# Altium integrated library Linear Technology Operational Amplifiers (LT2000-LT6000).IntLib: 1710 symbols (part 20 of 75)
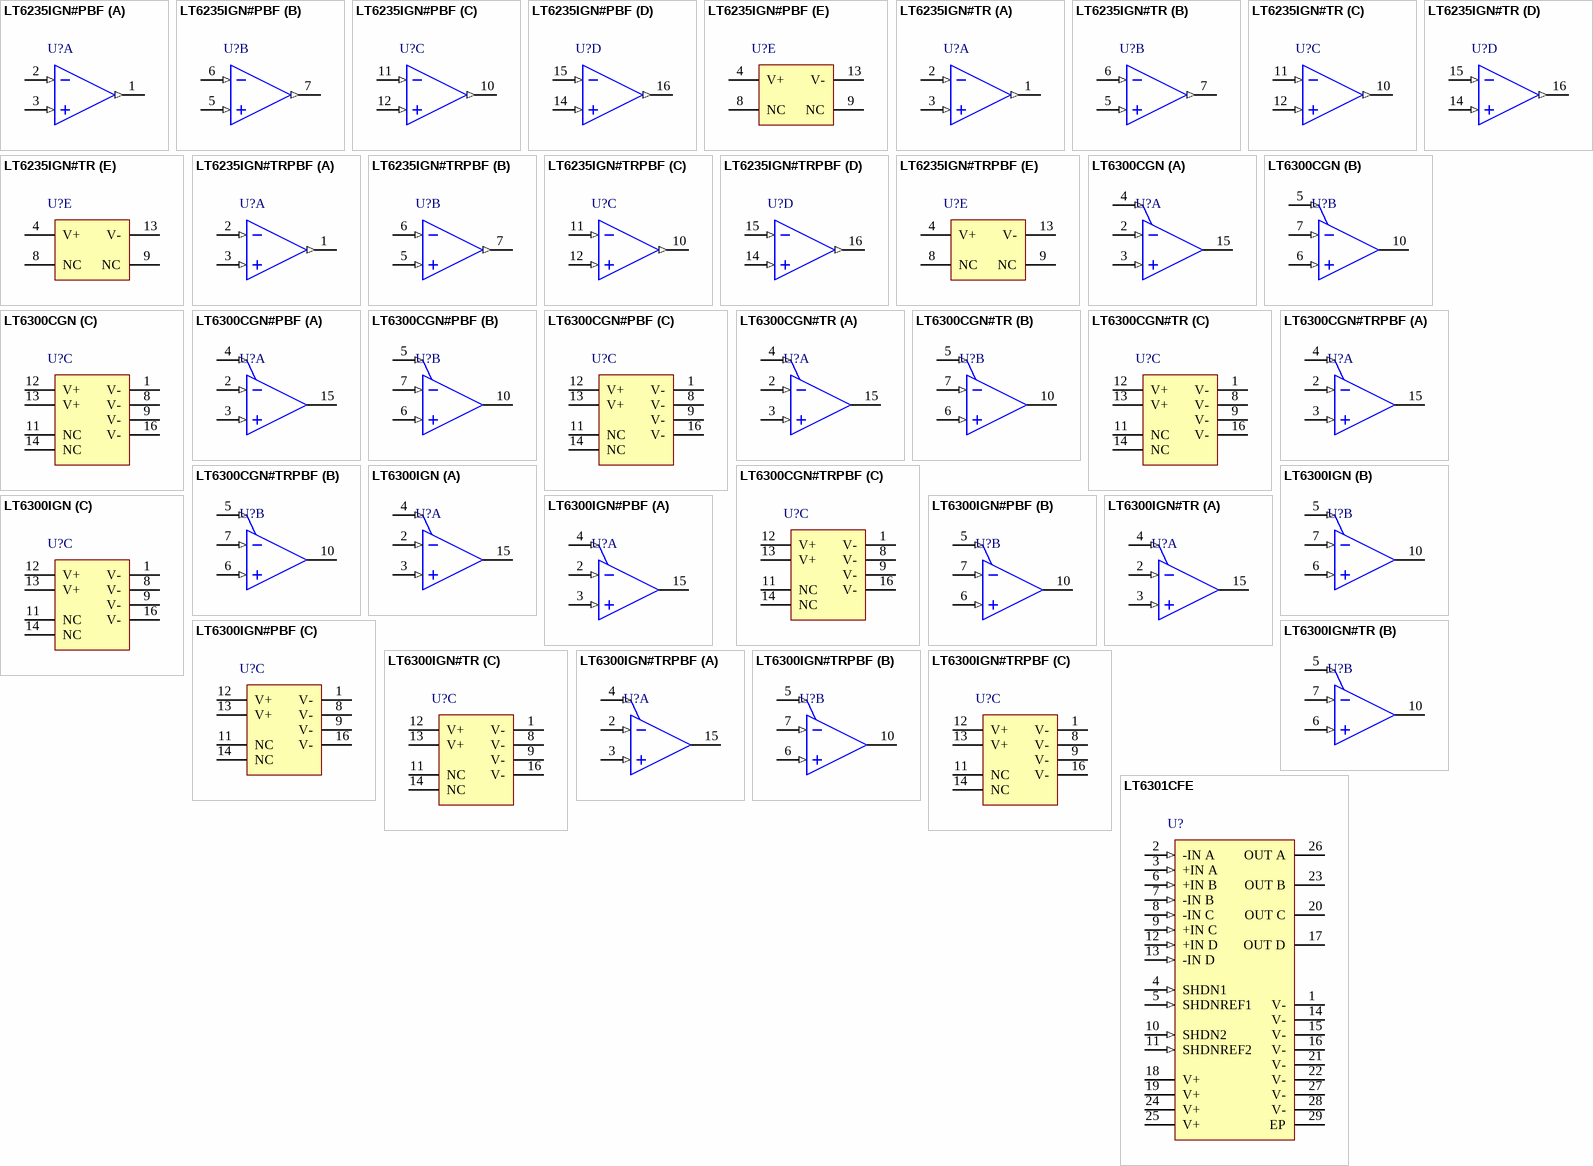
[diagram p99: symbols LT6235IGN#PBF to LT6301CFE]

## LT6300IGN
designator U?
Dual Channel, xDSL Driver, 500 mA, 200 MHz Typical GBW, 600 V/us Typical SR, 8 to 27 V, 16-Pin SOP (GN-16), Industrial; Linear Technology Part Number: LT6300; Manufacturer: Linear Technology; PartNumber: LT6300IGN; Channels (#): 2; GBW (MHz) Typical: 200; Is (mA) Typical: 10; SR (V/us) Typical: 600; Vos (mV) Guaranteed: 5; Vos (mV) Typical: 1; Vs Max (V): 27; Vs Min (V): 8; PackageVersion: Rev B; PackageReference: LT-GN-16; PackageDescription: 16-Lead Plastic SSOP, Body 4.9 x 3.9 mm, Pitch 0.635 mm; Supplier 1: Digi-Key; Supplier Part Number 1: LT6300IGN-ND; Type: VFB; Mounting Technology: Surface Mount; ComponentLink1Description: Manufacturer URL; ComponentLink1URL: http://www.linear.com/; ComponentLink2Description: Datasheet; ComponentLink2URL: http://cds.linear.com/docs/en/datasheet/6300f.pdf; ComponentLink3Description: Package Specification; ComponentLink3URL: http://cds.linear.com/docs/en/packaging/05081641_B_GN16.pdf
footprint LT-GN-16_N (SOP, 16-Leads, Body 4.9x3.9mm, Pitch 0.635mm, IPC Medium Density)
footprint LT-GN-16_L (SOP, 16-Leads, Body 4.9x3.9mm, Pitch 0.635mm, IPC High Density)
footprint LT-GN-16_M (SOP, 16-Leads, Body 4.9x3.9mm, Pitch 0.635mm, IPC Low Density)
part A pins: 2 -IN (in), 3 +IN (in), 4 SHDN (in), 15 OUT (hiz)
part B pins: 5 SHDNREF (in), 6 +IN (in), 7 -IN (in), 10 OUT (hiz)
part C pins: 1 V- (power), 8 V- (power), 9 V- (power), 11 NC, 12 V+ (power), 13 V+ (power), 14 NC, 16 V- (power)

## LT6300IGN#PBF
designator U?
Dual Channel, xDSL Driver, 500 mA, 200 MHz Typical GBW, 600 V/us Typical SR, 8 to 27 V, 16-Pin SOP (GN-16), Industrial, Pb-Free; Linear Technology Part Number: LT6300; Manufacturer: Linear Technology; PartNumber: LT6300IGN#PBF; Channels (#): 2; GBW (MHz) Typical: 200; Is (mA) Typical: 10; SR (V/us) Typical: 600; Vos (mV) Guaranteed: 5; Vos (mV) Typical: 1; Vs Max (V): 27; Vs Min (V): 8; PackageVersion: Rev B; PackageReference: LT-GN-16; PackageDescription: 16-Lead Plastic SSOP, Body 4.9 x 3.9 mm, Pitch 0.635 mm; Supplier 1: Digi-Key; Supplier Part Number 1: LT6300IGN#PBF-ND; RoHS: Pb-Free; Type: VFB; Mounting Technology: Surface Mount; ComponentLink1Description: Manufacturer URL; ComponentLink1URL: http://www.linear.com/; ComponentLink2Description: Datasheet; ComponentLink2URL: http://cds.linear.com/docs/en/datasheet/6300f.pdf; ComponentLink3Description: Package Specification; ComponentLink3URL: http://cds.linear.com/docs/en/packaging/05081641_B_GN16.pdf
footprint LT-GN-16_N (SOP, 16-Leads, Body 4.9x3.9mm, Pitch 0.635mm, IPC Medium Density)
footprint LT-GN-16_L (SOP, 16-Leads, Body 4.9x3.9mm, Pitch 0.635mm, IPC High Density)
footprint LT-GN-16_M (SOP, 16-Leads, Body 4.9x3.9mm, Pitch 0.635mm, IPC Low Density)
part A pins: 2 -IN (in), 3 +IN (in), 4 SHDN (in), 15 OUT (hiz)
part B pins: 5 SHDNREF (in), 6 +IN (in), 7 -IN (in), 10 OUT (hiz)
part C pins: 1 V- (power), 8 V- (power), 9 V- (power), 11 NC, 12 V+ (power), 13 V+ (power), 14 NC, 16 V- (power)

## LT6300IGN#TR
designator U?
Dual Channel, xDSL Driver, 500 mA, 200 MHz Typical GBW, 600 V/us Typical SR, 8 to 27 V, 16-Pin SOP (GN-16), Industrial, Reel; Linear Technology Part Number: LT6300; Manufacturer: Linear Technology; PartNumber: LT6300IGN#TR; Channels (#): 2; GBW (MHz) Typical: 200; Is (mA) Typical: 10; SR (V/us) Typical: 600; Vos (mV) Guaranteed: 5; Vos (mV) Typical: 1; Vs Max (V): 27; Vs Min (V): 8; PackageVersion: Rev B; PackageReference: LT-GN-16; PackageDescription: 16-Lead Plastic SSOP, Body 4.9 x 3.9 mm, Pitch 0.635 mm; Supplier 1: Digi-Key; Supplier Part Number 1: LT6300IGNTR-ND; Packing: Reel; Type: VFB; Mounting Technology: Surface Mount; ComponentLink1Description: Manufacturer URL; ComponentLink1URL: http://www.linear.com/; ComponentLink2Description: Datasheet; ComponentLink2URL: http://cds.linear.com/docs/en/datasheet/6300f.pdf; ComponentLink3Description: Package Specification; ComponentLink3URL: http://cds.linear.com/docs/en/packaging/05081641_B_GN16.pdf
footprint LT-GN-16_N (SOP, 16-Leads, Body 4.9x3.9mm, Pitch 0.635mm, IPC Medium Density)
footprint LT-GN-16_L (SOP, 16-Leads, Body 4.9x3.9mm, Pitch 0.635mm, IPC High Density)
footprint LT-GN-16_M (SOP, 16-Leads, Body 4.9x3.9mm, Pitch 0.635mm, IPC Low Density)
part A pins: 2 -IN (in), 3 +IN (in), 4 SHDN (in), 15 OUT (hiz)
part B pins: 5 SHDNREF (in), 6 +IN (in), 7 -IN (in), 10 OUT (hiz)
part C pins: 1 V- (power), 8 V- (power), 9 V- (power), 11 NC, 12 V+ (power), 13 V+ (power), 14 NC, 16 V- (power)

## LT6300IGN#TRPBF
designator U?
Dual Channel, xDSL Driver, 500 mA, 200 MHz Typical GBW, 600 V/us Typical SR, 8 to 27 V, 16-Pin SOP (GN-16), Industrial, Pb-Free, Reel; Linear Technology Part Number: LT6300; Manufacturer: Linear Technology; PartNumber: LT6300IGN#TRPBF; Channels (#): 2; GBW (MHz) Typical: 200; Is (mA) Typical: 10; SR (V/us) Typical: 600; Vos (mV) Guaranteed: 5; Vos (mV) Typical: 1; Vs Max (V): 27; Vs Min (V): 8; PackageVersion: Rev B; PackageReference: LT-GN-16; PackageDescription: 16-Lead Plastic SSOP, Body 4.9 x 3.9 mm, Pitch 0.635 mm; Supplier 1: Digi-Key; Supplier Part Number 1: LT6300IGN#TRPBF-ND; Packing: Reel; RoHS: Pb-Free; Type: VFB; Mounting Technology: Surface Mount; ComponentLink1Description: Manufacturer URL; ComponentLink1URL: http://www.linear.com/; ComponentLink2Description: Datasheet; ComponentLink2URL: http://cds.linear.com/docs/en/datasheet/6300f.pdf; ComponentLink3Description: Package Specification; ComponentLink3URL: http://cds.linear.com/docs/en/packaging/05081641_B_GN16.pdf
footprint LT-GN-16_N (SOP, 16-Leads, Body 4.9x3.9mm, Pitch 0.635mm, IPC Medium Density)
footprint LT-GN-16_L (SOP, 16-Leads, Body 4.9x3.9mm, Pitch 0.635mm, IPC High Density)
footprint LT-GN-16_M (SOP, 16-Leads, Body 4.9x3.9mm, Pitch 0.635mm, IPC Low Density)
part A pins: 2 -IN (in), 3 +IN (in), 4 SHDN (in), 15 OUT (hiz)
part B pins: 5 SHDNREF (in), 6 +IN (in), 7 -IN (in), 10 OUT (hiz)
part C pins: 1 V- (power), 8 V- (power), 9 V- (power), 11 NC, 12 V+ (power), 13 V+ (power), 14 NC, 16 V- (power)

## LT6301CFE
designator U?
Quad Channel, xDSL Driver, 500 mA, 200 MHz Typical GBW, 600 V/us Typical SR, 8 to 27 V, 28-Pin SOP (FE-28), Commercial; Linear Technology Part Number: LT6301; Manufacturer: Linear Technology; PartNumber: LT6301CFE; Channels (#): 4; GBW (MHz) Typical: 200; SR (V/us) Typical: 600; Vos (mV) Guaranteed: 5; Vos (mV) Typical: 1; Vs Max (V): 27; Vs Min (V): 8; PackageVersion: Rev I; PackageReference: LT-FE-28-EPV-EA; PackageDescription: 28-Lead Plastic TSSOP, Body 9.70 x 4.40 mm, Pitch 0.65 mm; Supplier 1: Digi-Key; Supplier Part Number 1: LT6301CFE-ND; Is (mA) Typical: 4; Type: VFB; Mounting Technology: Surface Mount; ComponentLink1Description: Manufacturer URL; ComponentLink1URL: http://www.linear.com/; ComponentLink2Description: Datasheet; ComponentLink2URL: http://cds.linear.com/docs/en/datasheet/6301fs.pdf; ComponentLink3Description: Package Specification; ComponentLink3URL: http://cds.linear.com/docs/en/packaging/05081663_I_FE28%28EA%29.pdf
footprint LT-FE-28-EPV-EA_N (SOP, 28-Leads, Body 9.70x4.40mm, Pitch 0.65mm, Thermal Pad 7.56X3.05mm, IPC Medium Density)
footprint LT-FE-28-EPV-EA_L (SOP, 28-Leads, Body 9.70x4.40mm, Pitch 0.65mm, Thermal Pad 7.56X3.05mm, IPC High Density)
footprint LT-FE-28-EPV-EA_M (SOP, 28-Leads, Body 9.70x4.40mm, Pitch 0.65mm, Thermal Pad 7.56X3.05mm, IPC Low Density)
pins: 1 V- (power), 2 -IN A (in), 3 +IN A (in), 4 SHDN1 (in), 5 SHDNREF1 (in), 6 +IN B (in), 7 -IN B (in), 8 -IN C (in), 9 +IN C (in), 10 SHDN2 (in), 11 SHDNREF2 (in), 12 +IN D (in), 13 -IN D (in), 14 V- (power), 15 V- (power), 16 V- (power), 17 OUT D (hiz), 18 V+ (power), 19 V+ (power), 20 OUT C (hiz), 21 V- (power), 22 V- (power), 23 OUT B (hiz), 24 V+ (power), 25 V+ (power), 26 OUT A (hiz), 27 V- (power), 28 V- (power), 29 EP (power)

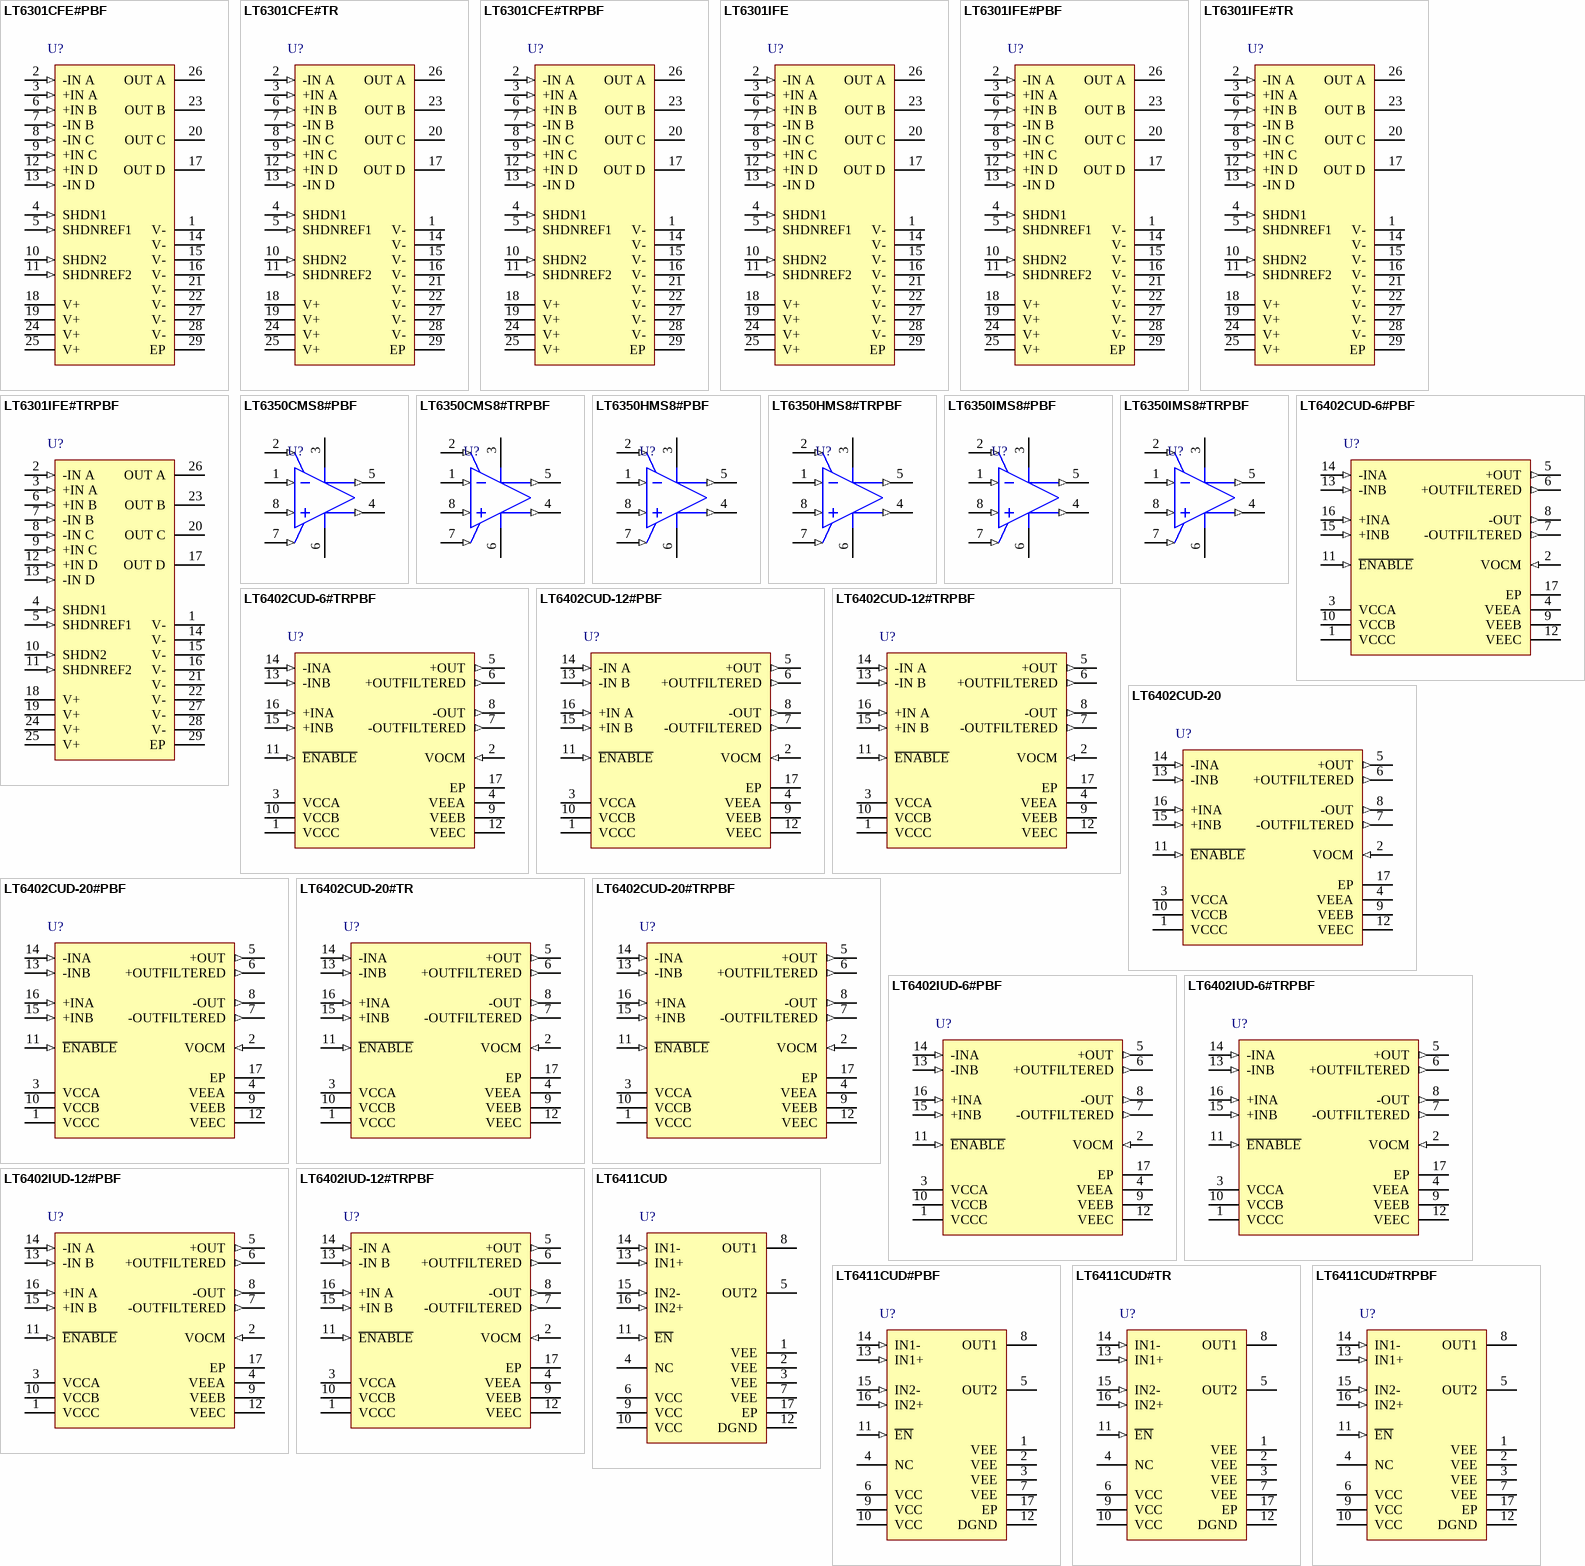
[diagram p31: symbols LT6301CFE#PBF to LT6411CUD#TRPBF]

## LT6301CFE#PBF
designator U?
Quad Channel, xDSL Driver, 500 mA, 200 MHz Typical GBW, 600 V/us Typical SR, 8 to 27 V, 28-Pin SOP (FE-28), Commercial, Pb-Free; Linear Technology Part Number: LT6301; Manufacturer: Linear Technology; PartNumber: LT6301CFE#PBF; Channels (#): 4; GBW (MHz) Typical: 200; SR (V/us) Typical: 600; Vos (mV) Guaranteed: 5; Vos (mV) Typical: 1; Vs Max (V): 27; Vs Min (V): 8; PackageVersion: Rev I; PackageReference: LT-FE-28-EPV-EA; PackageDescription: 28-Lead Plastic TSSOP, Body 9.70 x 4.40 mm, Pitch 0.65 mm; Supplier 1: Digi-Key; Supplier Part Number 1: LT6301CFE#PBF-ND; Is (mA) Typical: 4; RoHS: Pb-Free; Type: VFB; Mounting Technology: Surface Mount; ComponentLink1Description: Manufacturer URL; ComponentLink1URL: http://www.linear.com/; ComponentLink2Description: Datasheet; ComponentLink2URL: http://cds.linear.com/docs/en/datasheet/6301fs.pdf; ComponentLink3Description: Package Specification; ComponentLink3URL: http://cds.linear.com/docs/en/packaging/05081663_I_FE28%28EA%29.pdf
footprint LT-FE-28-EPV-EA_N (SOP, 28-Leads, Body 9.70x4.40mm, Pitch 0.65mm, Thermal Pad 7.56X3.05mm, IPC Medium Density)
footprint LT-FE-28-EPV-EA_L (SOP, 28-Leads, Body 9.70x4.40mm, Pitch 0.65mm, Thermal Pad 7.56X3.05mm, IPC High Density)
footprint LT-FE-28-EPV-EA_M (SOP, 28-Leads, Body 9.70x4.40mm, Pitch 0.65mm, Thermal Pad 7.56X3.05mm, IPC Low Density)
pins: 1 V- (power), 2 -IN A (in), 3 +IN A (in), 4 SHDN1 (in), 5 SHDNREF1 (in), 6 +IN B (in), 7 -IN B (in), 8 -IN C (in), 9 +IN C (in), 10 SHDN2 (in), 11 SHDNREF2 (in), 12 +IN D (in), 13 -IN D (in), 14 V- (power), 15 V- (power), 16 V- (power), 17 OUT D (hiz), 18 V+ (power), 19 V+ (power), 20 OUT C (hiz), 21 V- (power), 22 V- (power), 23 OUT B (hiz), 24 V+ (power), 25 V+ (power), 26 OUT A (hiz), 27 V- (power), 28 V- (power), 29 EP (power)

## LT6301CFE#TR
designator U?
Quad Channel, xDSL Driver, 500 mA, 200 MHz Typical GBW, 600 V/us Typical SR, 8 to 27 V, 28-Pin SOP (FE-28), Commercial, Reel; Linear Technology Part Number: LT6301; Manufacturer: Linear Technology; PartNumber: LT6301CFE#TR; Channels (#): 4; GBW (MHz) Typical: 200; SR (V/us) Typical: 600; Vos (mV) Guaranteed: 5; Vos (mV) Typical: 1; Vs Max (V): 27; Vs Min (V): 8; PackageVersion: Rev I; PackageReference: LT-FE-28-EPV-EA; PackageDescription: 28-Lead Plastic TSSOP, Body 9.70 x 4.40 mm, Pitch 0.65 mm; Supplier 1: Digi-Key; Supplier Part Number 1: LT6301CFETR-ND; Is (mA) Typical: 4; Packing: Reel; Type: VFB; Mounting Technology: Surface Mount; ComponentLink1Description: Manufacturer URL; ComponentLink1URL: http://www.linear.com/; ComponentLink2Description: Datasheet; ComponentLink2URL: http://cds.linear.com/docs/en/datasheet/6301fs.pdf; ComponentLink3Description: Package Specification; ComponentLink3URL: http://cds.linear.com/docs/en/packaging/05081663_I_FE28%28EA%29.pdf
footprint LT-FE-28-EPV-EA_N (SOP, 28-Leads, Body 9.70x4.40mm, Pitch 0.65mm, Thermal Pad 7.56X3.05mm, IPC Medium Density)
footprint LT-FE-28-EPV-EA_L (SOP, 28-Leads, Body 9.70x4.40mm, Pitch 0.65mm, Thermal Pad 7.56X3.05mm, IPC High Density)
footprint LT-FE-28-EPV-EA_M (SOP, 28-Leads, Body 9.70x4.40mm, Pitch 0.65mm, Thermal Pad 7.56X3.05mm, IPC Low Density)
pins: 1 V- (power), 2 -IN A (in), 3 +IN A (in), 4 SHDN1 (in), 5 SHDNREF1 (in), 6 +IN B (in), 7 -IN B (in), 8 -IN C (in), 9 +IN C (in), 10 SHDN2 (in), 11 SHDNREF2 (in), 12 +IN D (in), 13 -IN D (in), 14 V- (power), 15 V- (power), 16 V- (power), 17 OUT D (hiz), 18 V+ (power), 19 V+ (power), 20 OUT C (hiz), 21 V- (power), 22 V- (power), 23 OUT B (hiz), 24 V+ (power), 25 V+ (power), 26 OUT A (hiz), 27 V- (power), 28 V- (power), 29 EP (power)

## LT6301CFE#TRPBF
designator U?
Quad Channel, xDSL Driver, 500 mA, 200 MHz Typical GBW, 600 V/us Typical SR, 8 to 27 V, 28-Pin SOP (FE-28), Commercial, Pb-Free, Reel; Linear Technology Part Number: LT6301; Manufacturer: Linear Technology; PartNumber: LT6301CFE#TRPBF; Channels (#): 4; GBW (MHz) Typical: 200; SR (V/us) Typical: 600; Vos (mV) Guaranteed: 5; Vos (mV) Typical: 1; Vs Max (V): 27; Vs Min (V): 8; PackageVersion: Rev I; PackageReference: LT-FE-28-EPV-EA; PackageDescription: 28-Lead Plastic TSSOP, Body 9.70 x 4.40 mm, Pitch 0.65 mm; Supplier 1: Digi-Key; Supplier Part Number 1: LT6301CFE#TRPBF-ND; Is (mA) Typical: 4; Packing: Reel; RoHS: Pb-Free; Type: VFB; Mounting Technology: Surface Mount; ComponentLink1Description: Manufacturer URL; ComponentLink1URL: http://www.linear.com/; ComponentLink2Description: Datasheet; ComponentLink2URL: http://cds.linear.com/docs/en/datasheet/6301fs.pdf; ComponentLink3Description: Package Specification; ComponentLink3URL: http://cds.linear.com/docs/en/packaging/05081663_I_FE28%28EA%29.pdf
footprint LT-FE-28-EPV-EA_N (SOP, 28-Leads, Body 9.70x4.40mm, Pitch 0.65mm, Thermal Pad 7.56X3.05mm, IPC Medium Density)
footprint LT-FE-28-EPV-EA_L (SOP, 28-Leads, Body 9.70x4.40mm, Pitch 0.65mm, Thermal Pad 7.56X3.05mm, IPC High Density)
footprint LT-FE-28-EPV-EA_M (SOP, 28-Leads, Body 9.70x4.40mm, Pitch 0.65mm, Thermal Pad 7.56X3.05mm, IPC Low Density)
pins: 1 V- (power), 2 -IN A (in), 3 +IN A (in), 4 SHDN1 (in), 5 SHDNREF1 (in), 6 +IN B (in), 7 -IN B (in), 8 -IN C (in), 9 +IN C (in), 10 SHDN2 (in), 11 SHDNREF2 (in), 12 +IN D (in), 13 -IN D (in), 14 V- (power), 15 V- (power), 16 V- (power), 17 OUT D (hiz), 18 V+ (power), 19 V+ (power), 20 OUT C (hiz), 21 V- (power), 22 V- (power), 23 OUT B (hiz), 24 V+ (power), 25 V+ (power), 26 OUT A (hiz), 27 V- (power), 28 V- (power), 29 EP (power)

## LT6301IFE
designator U?
Quad Channel, xDSL Driver, 500 mA, 200 MHz Typical GBW, 600 V/us Typical SR, 8 to 27 V, 28-Pin SOP (FE-28), Industrial; Linear Technology Part Number: LT6301; Manufacturer: Linear Technology; PartNumber: LT6301IFE; Channels (#): 4; GBW (MHz) Typical: 200; SR (V/us) Typical: 600; Vos (mV) Guaranteed: 5; Vos (mV) Typical: 1; Vs Max (V): 27; Vs Min (V): 8; PackageVersion: Rev I; PackageReference: LT-FE-28-EPV-EA; PackageDescription: 28-Lead Plastic TSSOP, Body 9.70 x 4.40 mm, Pitch 0.65 mm; Supplier 1: Digi-Key; Supplier Part Number 1: LT6301IFE-ND; Is (mA) Typical: 4; Type: VFB; Mounting Technology: Surface Mount; ComponentLink1Description: Manufacturer URL; ComponentLink1URL: http://www.linear.com/; ComponentLink2Description: Datasheet; ComponentLink2URL: http://cds.linear.com/docs/en/datasheet/6301fs.pdf; ComponentLink3Description: Package Specification; ComponentLink3URL: http://cds.linear.com/docs/en/packaging/05081663_I_FE28%28EA%29.pdf
footprint LT-FE-28-EPV-EA_N (SOP, 28-Leads, Body 9.70x4.40mm, Pitch 0.65mm, Thermal Pad 7.56X3.05mm, IPC Medium Density)
footprint LT-FE-28-EPV-EA_L (SOP, 28-Leads, Body 9.70x4.40mm, Pitch 0.65mm, Thermal Pad 7.56X3.05mm, IPC High Density)
footprint LT-FE-28-EPV-EA_M (SOP, 28-Leads, Body 9.70x4.40mm, Pitch 0.65mm, Thermal Pad 7.56X3.05mm, IPC Low Density)
pins: 1 V- (power), 2 -IN A (in), 3 +IN A (in), 4 SHDN1 (in), 5 SHDNREF1 (in), 6 +IN B (in), 7 -IN B (in), 8 -IN C (in), 9 +IN C (in), 10 SHDN2 (in), 11 SHDNREF2 (in), 12 +IN D (in), 13 -IN D (in), 14 V- (power), 15 V- (power), 16 V- (power), 17 OUT D (hiz), 18 V+ (power), 19 V+ (power), 20 OUT C (hiz), 21 V- (power), 22 V- (power), 23 OUT B (hiz), 24 V+ (power), 25 V+ (power), 26 OUT A (hiz), 27 V- (power), 28 V- (power), 29 EP (power)

## LT6301IFE#PBF
designator U?
Quad Channel, xDSL Driver, 500 mA, 200 MHz Typical GBW, 600 V/us Typical SR, 8 to 27 V, 28-Pin SOP (FE-28), Industrial, Pb-Free; Linear Technology Part Number: LT6301; Manufacturer: Linear Technology; PartNumber: LT6301IFE#PBF; Channels (#): 4; GBW (MHz) Typical: 200; SR (V/us) Typical: 600; Vos (mV) Guaranteed: 5; Vos (mV) Typical: 1; Vs Max (V): 27; Vs Min (V): 8; PackageVersion: Rev I; PackageReference: LT-FE-28-EPV-EA; PackageDescription: 28-Lead Plastic TSSOP, Body 9.70 x 4.40 mm, Pitch 0.65 mm; Is (mA) Typical: 4; RoHS: Pb-Free; Type: VFB; Mounting Technology: Surface Mount; ComponentLink1Description: Manufacturer URL; ComponentLink1URL: http://www.linear.com/; ComponentLink2Description: Datasheet; ComponentLink2URL: http://cds.linear.com/docs/en/datasheet/6301fs.pdf; ComponentLink3Description: Package Specification; ComponentLink3URL: http://cds.linear.com/docs/en/packaging/05081663_I_FE28%28EA%29.pdf
footprint LT-FE-28-EPV-EA_N (SOP, 28-Leads, Body 9.70x4.40mm, Pitch 0.65mm, Thermal Pad 7.56X3.05mm, IPC Medium Density)
footprint LT-FE-28-EPV-EA_L (SOP, 28-Leads, Body 9.70x4.40mm, Pitch 0.65mm, Thermal Pad 7.56X3.05mm, IPC High Density)
footprint LT-FE-28-EPV-EA_M (SOP, 28-Leads, Body 9.70x4.40mm, Pitch 0.65mm, Thermal Pad 7.56X3.05mm, IPC Low Density)
pins: 1 V- (power), 2 -IN A (in), 3 +IN A (in), 4 SHDN1 (in), 5 SHDNREF1 (in), 6 +IN B (in), 7 -IN B (in), 8 -IN C (in), 9 +IN C (in), 10 SHDN2 (in), 11 SHDNREF2 (in), 12 +IN D (in), 13 -IN D (in), 14 V- (power), 15 V- (power), 16 V- (power), 17 OUT D (hiz), 18 V+ (power), 19 V+ (power), 20 OUT C (hiz), 21 V- (power), 22 V- (power), 23 OUT B (hiz), 24 V+ (power), 25 V+ (power), 26 OUT A (hiz), 27 V- (power), 28 V- (power), 29 EP (power)

## LT6301IFE#TR
designator U?
Quad Channel, xDSL Driver, 500 mA, 200 MHz Typical GBW, 600 V/us Typical SR, 8 to 27 V, 28-Pin SOP (FE-28), Industrial, Reel; Linear Technology Part Number: LT6301; Manufacturer: Linear Technology; PartNumber: LT6301IFE#TR; Channels (#): 4; GBW (MHz) Typical: 200; SR (V/us) Typical: 600; Vos (mV) Guaranteed: 5; Vos (mV) Typical: 1; Vs Max (V): 27; Vs Min (V): 8; PackageVersion: Rev I; PackageReference: LT-FE-28-EPV-EA; PackageDescription: 28-Lead Plastic TSSOP, Body 9.70 x 4.40 mm, Pitch 0.65 mm; Supplier 1: Digi-Key; Supplier Part Number 1: LT6301IFETR-ND; Is (mA) Typical: 4; Packing: Reel; Type: VFB; Mounting Technology: Surface Mount; ComponentLink1Description: Manufacturer URL; ComponentLink1URL: http://www.linear.com/; ComponentLink2Description: Datasheet; ComponentLink2URL: http://cds.linear.com/docs/en/datasheet/6301fs.pdf; ComponentLink3Description: Package Specification; ComponentLink3URL: http://cds.linear.com/docs/en/packaging/05081663_I_FE28%28EA%29.pdf
footprint LT-FE-28-EPV-EA_N (SOP, 28-Leads, Body 9.70x4.40mm, Pitch 0.65mm, Thermal Pad 7.56X3.05mm, IPC Medium Density)
footprint LT-FE-28-EPV-EA_L (SOP, 28-Leads, Body 9.70x4.40mm, Pitch 0.65mm, Thermal Pad 7.56X3.05mm, IPC High Density)
footprint LT-FE-28-EPV-EA_M (SOP, 28-Leads, Body 9.70x4.40mm, Pitch 0.65mm, Thermal Pad 7.56X3.05mm, IPC Low Density)
pins: 1 V- (power), 2 -IN A (in), 3 +IN A (in), 4 SHDN1 (in), 5 SHDNREF1 (in), 6 +IN B (in), 7 -IN B (in), 8 -IN C (in), 9 +IN C (in), 10 SHDN2 (in), 11 SHDNREF2 (in), 12 +IN D (in), 13 -IN D (in), 14 V- (power), 15 V- (power), 16 V- (power), 17 OUT D (hiz), 18 V+ (power), 19 V+ (power), 20 OUT C (hiz), 21 V- (power), 22 V- (power), 23 OUT B (hiz), 24 V+ (power), 25 V+ (power), 26 OUT A (hiz), 27 V- (power), 28 V- (power), 29 EP (power)

## LT6301IFE#TRPBF
designator U?
Quad Channel, xDSL Driver, 500 mA, 200 MHz Typical GBW, 600 V/us Typical SR, 8 to 27 V, 28-Pin SOP (FE-28), Industrial, Pb-Free, Reel; Linear Technology Part Number: LT6301; Manufacturer: Linear Technology; PartNumber: LT6301IFE#TRPBF; Channels (#): 4; GBW (MHz) Typical: 200; SR (V/us) Typical: 600; Vos (mV) Guaranteed: 5; Vos (mV) Typical: 1; Vs Max (V): 27; Vs Min (V): 8; PackageVersion: Rev I; PackageReference: LT-FE-28-EPV-EA; PackageDescription: 28-Lead Plastic TSSOP, Body 9.70 x 4.40 mm, Pitch 0.65 mm; Supplier 1: Digi-Key; Supplier Part Number 1: LT6301IFE#TRPBF-ND; Is (mA) Typical: 4; Packing: Reel; RoHS: Pb-Free; Type: VFB; Mounting Technology: Surface Mount; ComponentLink1Description: Manufacturer URL; ComponentLink1URL: http://www.linear.com/; ComponentLink2Description: Datasheet; ComponentLink2URL: http://cds.linear.com/docs/en/datasheet/6301fs.pdf; ComponentLink3Description: Package Specification; ComponentLink3URL: http://cds.linear.com/docs/en/packaging/05081663_I_FE28%28EA%29.pdf
footprint LT-FE-28-EPV-EA_N (SOP, 28-Leads, Body 9.70x4.40mm, Pitch 0.65mm, Thermal Pad 7.56X3.05mm, IPC Medium Density)
footprint LT-FE-28-EPV-EA_L (SOP, 28-Leads, Body 9.70x4.40mm, Pitch 0.65mm, Thermal Pad 7.56X3.05mm, IPC High Density)
footprint LT-FE-28-EPV-EA_M (SOP, 28-Leads, Body 9.70x4.40mm, Pitch 0.65mm, Thermal Pad 7.56X3.05mm, IPC Low Density)
pins: 1 V- (power), 2 -IN A (in), 3 +IN A (in), 4 SHDN1 (in), 5 SHDNREF1 (in), 6 +IN B (in), 7 -IN B (in), 8 -IN C (in), 9 +IN C (in), 10 SHDN2 (in), 11 SHDNREF2 (in), 12 +IN D (in), 13 -IN D (in), 14 V- (power), 15 V- (power), 16 V- (power), 17 OUT D (hiz), 18 V+ (power), 19 V+ (power), 20 OUT C (hiz), 21 V- (power), 22 V- (power), 23 OUT B (hiz), 24 V+ (power), 25 V+ (power), 26 OUT A (hiz), 27 V- (power), 28 V- (power), 29 EP (power)

## LT6350CMS8#PBF
designator U?
Single Channel, Low Noise Single-Ended to Differential Converter / ADC Driver, 33 MHz Typical GBW, 48 V/us Typical SR, 2.7 to 12 V, 8-Pin SOP (MS8-8), Commercial, Pb-Free; Linear Technology Part Number: LT6350; Manufacturer: Linear Technology; PartNumber: LT6350CMS8#PBF; Channels (#): 1; GBW (MHz) Typical: 33; Is (mA) Typical: 4.5; SR (V/us) Typical: 48; Vos (mV) Guaranteed: 0.45; Vos (mV) Typical: 0.1; Vs Max (V): 12; Vs Min (V): 2.7; DatasheetVersion: Rev. B; PackageVersion: Rev G; PackageReference: LT-MS8-8; PackageDescription: 8-Lead Plastic Small Outline, Body 3.9 x 4.9 mm, Pitch 1.27 mm; Supplier 1: Digi-Key; Supplier Part Number 1: LT6350CMS8#PBF-ND; Supplier 2: Farnell; Supplier Part Number 2: 2102657; Supplier 3: Newark; Supplier Part Number 3: 78R8472; RoHS: Pb-Free; Type: DIFF; Mounting Technology: Surface Mount; ComponentLink1Description: Manufacturer URL; ComponentLink1URL: http://www.linear.com/; ComponentLink2Description: Datasheet; ComponentLink2URL: http://cds.linear.com/docs/en/datasheet/6350f.pdf; ComponentLink3Description: Package Specification; ComponentLink3URL: http://cds.linear.com/docs/en/packaging/05081610_G_SO8.pdf
footprint LT-MS8-8_N (SOP, 8-Leads, Body 3x3mm, Pitch 0.65mm, IPC Medium Density)
footprint LT-MS8-8_L (SOP, 8-Leads, Body 3x3mm, Pitch 0.65mm, IPC High Density)
footprint LT-MS8-8_M (SOP, 8-Leads, Body 3x3mm, Pitch 0.65mm, IPC Low Density)
pins: 1 -IN1 (in) "Inverting Input. Normally used to take feedback from OUT1.", 2 +IN2 (in) "High Impedance Input. Normally used as a reference input.", 3 V+ (power) "Positive Power Supply.", 4 OUT1 (out) "Noninverting Output. In phase with +IN1.", 5 OUT2 (out) "Inverting Output.", 6 V- (power) "Negative Power Supply. Can be ground.", 7 ~{SHDN} (in) "Shutdown. If tied high or left fl oating, the part is enabled. If tied low, the part is disabled and draws less than 70 uA of supply current.", 8 +IN1 (in) "High Impedance Input. Normally used as the single-ended input."

## LT6350CMS8#TRPBF
designator U?
Single Channel, Low Noise Single-Ended to Differential Converter / ADC Driver, 33 MHz Typical GBW, 48 V/us Typical SR, 2.7 to 12 V, 8-Pin SOP (MS8-8), Commercial, Pb-Free, Reel; Linear Technology Part Number: LT6350; Manufacturer: Linear Technology; PartNumber: LT6350CMS8#TRPBF; Channels (#): 1; GBW (MHz) Typical: 33; Is (mA) Typical: 4.5; SR (V/us) Typical: 48; Vos (mV) Guaranteed: 0.45; Vos (mV) Typical: 0.1; Vs Max (V): 12; Vs Min (V): 2.7; DatasheetVersion: Rev. B; PackageVersion: Rev G; PackageReference: LT-MS8-8; PackageDescription: 8-Lead Plastic Small Outline, Body 3.9 x 4.9 mm, Pitch 1.27 mm; Supplier 1: Digi-Key; Supplier Part Number 1: LT6350CMS8#TRPBF-ND; Supplier 2: Newark; Supplier Part Number 2: 78R8473; Packing: Reel; RoHS: Pb-Free; Type: DIFF; Mounting Technology: Surface Mount; ComponentLink1Description: Manufacturer URL; ComponentLink1URL: http://www.linear.com/; ComponentLink2Description: Datasheet; ComponentLink2URL: http://cds.linear.com/docs/en/datasheet/6350f.pdf; ComponentLink3Description: Package Specification; ComponentLink3URL: http://cds.linear.com/docs/en/packaging/05081610_G_SO8.pdf
footprint LT-MS8-8_N (SOP, 8-Leads, Body 3x3mm, Pitch 0.65mm, IPC Medium Density)
footprint LT-MS8-8_L (SOP, 8-Leads, Body 3x3mm, Pitch 0.65mm, IPC High Density)
footprint LT-MS8-8_M (SOP, 8-Leads, Body 3x3mm, Pitch 0.65mm, IPC Low Density)
pins: 1 -IN1 (in) "Inverting Input. Normally used to take feedback from OUT1.", 2 +IN2 (in) "High Impedance Input. Normally used as a reference input.", 3 V+ (power) "Positive Power Supply.", 4 OUT1 (out) "Noninverting Output. In phase with +IN1.", 5 OUT2 (out) "Inverting Output.", 6 V- (power) "Negative Power Supply. Can be ground.", 7 ~{SHDN} (in) "Shutdown. If tied high or left fl oating, the part is enabled. If tied low, the part is disabled and draws less than 70 uA of supply current.", 8 +IN1 (in) "High Impedance Input. Normally used as the single-ended input."

## LT6350HMS8#PBF
designator U?
Single Channel, Low Noise Single-Ended to Differential Converter / ADC Driver, 33 MHz Typical GBW, 48 V/us Typical SR, 2.7 to 12 V, 8-Pin SOP (MS8-8), High Temperature / Automotive, Pb-Free; Linear Technology Part Number: LT6350; Manufacturer: Linear Technology; PartNumber: LT6350HMS8#PBF; Channels (#): 1; GBW (MHz) Typical: 33; Is (mA) Typical: 4.5; SR (V/us) Typical: 48; Vos (mV) Guaranteed: 0.45; Vos (mV) Typical: 0.1; Vs Max (V): 12; Vs Min (V): 2.7; DatasheetVersion: Rev. B; PackageVersion: Rev G; PackageReference: LT-MS8-8; PackageDescription: 8-Lead Plastic Small Outline, Body 3.9 x 4.9 mm, Pitch 1.27 mm; Supplier 1: Digi-Key; Supplier Part Number 1: LT6350HMS8#PBF-ND; Supplier 2: Newark; Supplier Part Number 2: 78R8476; RoHS: Pb-Free; Type: DIFF; Mounting Technology: Surface Mount; ComponentLink1Description: Manufacturer URL; ComponentLink1URL: http://www.linear.com/; ComponentLink2Description: Datasheet; ComponentLink2URL: http://cds.linear.com/docs/en/datasheet/6350f.pdf; ComponentLink3Description: Package Specification; ComponentLink3URL: http://cds.linear.com/docs/en/packaging/05081610_G_SO8.pdf
footprint LT-MS8-8_N (SOP, 8-Leads, Body 3x3mm, Pitch 0.65mm, IPC Medium Density)
footprint LT-MS8-8_L (SOP, 8-Leads, Body 3x3mm, Pitch 0.65mm, IPC High Density)
footprint LT-MS8-8_M (SOP, 8-Leads, Body 3x3mm, Pitch 0.65mm, IPC Low Density)
pins: 1 -IN1 (in) "Inverting Input. Normally used to take feedback from OUT1.", 2 +IN2 (in) "High Impedance Input. Normally used as a reference input.", 3 V+ (power) "Positive Power Supply.", 4 OUT1 (out) "Noninverting Output. In phase with +IN1.", 5 OUT2 (out) "Inverting Output.", 6 V- (power) "Negative Power Supply. Can be ground.", 7 ~{SHDN} (in) "Shutdown. If tied high or left fl oating, the part is enabled. If tied low, the part is disabled and draws less than 70 uA of supply current.", 8 +IN1 (in) "High Impedance Input. Normally used as the single-ended input."

## LT6350HMS8#TRPBF
designator U?
Single Channel, Low Noise Single-Ended to Differential Converter / ADC Driver, 33 MHz Typical GBW, 48 V/us Typical SR, 2.7 to 12 V, 8-Pin SOP (MS8-8), High Temperature / Automotive, Pb-Free, Reel; Linear Technology Part Number: LT6350; Manufacturer: Linear Technology; PartNumber: LT6350HMS8#TRPBF; Channels (#): 1; GBW (MHz) Typical: 33; Is (mA) Typical: 4.5; SR (V/us) Typical: 48; Vos (mV) Guaranteed: 0.45; Vos (mV) Typical: 0.1; Vs Max (V): 12; Vs Min (V): 2.7; DatasheetVersion: Rev. B; PackageVersion: Rev G; PackageReference: LT-MS8-8; PackageDescription: 8-Lead Plastic Small Outline, Body 3.9 x 4.9 mm, Pitch 1.27 mm; Supplier 1: Digi-Key; Supplier Part Number 1: LT6350HMS8#TRPBF-ND; Supplier 2: Newark; Supplier Part Number 2: 78R8477; Packing: Reel; RoHS: Pb-Free; Type: DIFF; Mounting Technology: Surface Mount; ComponentLink1Description: Manufacturer URL; ComponentLink1URL: http://www.linear.com/; ComponentLink2Description: Datasheet; ComponentLink2URL: http://cds.linear.com/docs/en/datasheet/6350f.pdf; ComponentLink3Description: Package Specification; ComponentLink3URL: http://cds.linear.com/docs/en/packaging/05081610_G_SO8.pdf
footprint LT-MS8-8_N (SOP, 8-Leads, Body 3x3mm, Pitch 0.65mm, IPC Medium Density)
footprint LT-MS8-8_L (SOP, 8-Leads, Body 3x3mm, Pitch 0.65mm, IPC High Density)
footprint LT-MS8-8_M (SOP, 8-Leads, Body 3x3mm, Pitch 0.65mm, IPC Low Density)
pins: 1 -IN1 (in) "Inverting Input. Normally used to take feedback from OUT1.", 2 +IN2 (in) "High Impedance Input. Normally used as a reference input.", 3 V+ (power) "Positive Power Supply.", 4 OUT1 (out) "Noninverting Output. In phase with +IN1.", 5 OUT2 (out) "Inverting Output.", 6 V- (power) "Negative Power Supply. Can be ground.", 7 ~{SHDN} (in) "Shutdown. If tied high or left fl oating, the part is enabled. If tied low, the part is disabled and draws less than 70 uA of supply current.", 8 +IN1 (in) "High Impedance Input. Normally used as the single-ended input."

## LT6350IMS8#PBF
designator U?
Single Channel, Low Noise Single-Ended to Differential Converter / ADC Driver, 33 MHz Typical GBW, 48 V/us Typical SR, 2.7 to 12 V, 8-Pin SOP (MS8-8), Industrial, Pb-Free; Linear Technology Part Number: LT6350; Manufacturer: Linear Technology; PartNumber: LT6350IMS8#PBF; Channels (#): 1; GBW (MHz) Typical: 33; Is (mA) Typical: 4.5; SR (V/us) Typical: 48; Vos (mV) Guaranteed: 0.45; Vos (mV) Typical: 0.1; Vs Max (V): 12; Vs Min (V): 2.7; DatasheetVersion: Rev. B; PackageVersion: Rev G; PackageReference: LT-MS8-8; PackageDescription: 8-Lead Plastic Small Outline, Body 3.9 x 4.9 mm, Pitch 1.27 mm; Supplier 1: Digi-Key; Supplier Part Number 1: LT6350IMS8#PBF-ND; Supplier 2: Newark; Supplier Part Number 2: 78R8480; RoHS: Pb-Free; Type: DIFF; Mounting Technology: Surface Mount; ComponentLink1Description: Manufacturer URL; ComponentLink1URL: http://www.linear.com/; ComponentLink2Description: Datasheet; ComponentLink2URL: http://cds.linear.com/docs/en/datasheet/6350f.pdf; ComponentLink3Description: Package Specification; ComponentLink3URL: http://cds.linear.com/docs/en/packaging/05081610_G_SO8.pdf
footprint LT-MS8-8_N (SOP, 8-Leads, Body 3x3mm, Pitch 0.65mm, IPC Medium Density)
footprint LT-MS8-8_L (SOP, 8-Leads, Body 3x3mm, Pitch 0.65mm, IPC High Density)
footprint LT-MS8-8_M (SOP, 8-Leads, Body 3x3mm, Pitch 0.65mm, IPC Low Density)
pins: 1 -IN1 (in) "Inverting Input. Normally used to take feedback from OUT1.", 2 +IN2 (in) "High Impedance Input. Normally used as a reference input.", 3 V+ (power) "Positive Power Supply.", 4 OUT1 (out) "Noninverting Output. In phase with +IN1.", 5 OUT2 (out) "Inverting Output.", 6 V- (power) "Negative Power Supply. Can be ground.", 7 ~{SHDN} (in) "Shutdown. If tied high or left fl oating, the part is enabled. If tied low, the part is disabled and draws less than 70 uA of supply current.", 8 +IN1 (in) "High Impedance Input. Normally used as the single-ended input."

## LT6350IMS8#TRPBF
designator U?
Single Channel, Low Noise Single-Ended to Differential Converter / ADC Driver, 33 MHz Typical GBW, 48 V/us Typical SR, 2.7 to 12 V, 8-Pin SOP (MS8-8), Industrial, Pb-Free, Reel; Linear Technology Part Number: LT6350; Manufacturer: Linear Technology; PartNumber: LT6350IMS8#TRPBF; Channels (#): 1; GBW (MHz) Typical: 33; Is (mA) Typical: 4.5; SR (V/us) Typical: 48; Vos (mV) Guaranteed: 0.45; Vos (mV) Typical: 0.1; Vs Max (V): 12; Vs Min (V): 2.7; DatasheetVersion: Rev. B; PackageVersion: Rev G; PackageReference: LT-MS8-8; PackageDescription: 8-Lead Plastic Small Outline, Body 3.9 x 4.9 mm, Pitch 1.27 mm; Supplier 1: Digi-Key; Supplier Part Number 1: LT6350IMS8#TRPBF-ND; Supplier 2: Newark; Supplier Part Number 2: 78R8481; Packing: Reel; RoHS: Pb-Free; Type: DIFF; Mounting Technology: Surface Mount; ComponentLink1Description: Manufacturer URL; ComponentLink1URL: http://www.linear.com/; ComponentLink2Description: Datasheet; ComponentLink2URL: http://cds.linear.com/docs/en/datasheet/6350f.pdf; ComponentLink3Description: Package Specification; ComponentLink3URL: http://cds.linear.com/docs/en/packaging/05081610_G_SO8.pdf
footprint LT-MS8-8_N (SOP, 8-Leads, Body 3x3mm, Pitch 0.65mm, IPC Medium Density)
footprint LT-MS8-8_L (SOP, 8-Leads, Body 3x3mm, Pitch 0.65mm, IPC High Density)
footprint LT-MS8-8_M (SOP, 8-Leads, Body 3x3mm, Pitch 0.65mm, IPC Low Density)
pins: 1 -IN1 (in) "Inverting Input. Normally used to take feedback from OUT1.", 2 +IN2 (in) "High Impedance Input. Normally used as a reference input.", 3 V+ (power) "Positive Power Supply.", 4 OUT1 (out) "Noninverting Output. In phase with +IN1.", 5 OUT2 (out) "Inverting Output.", 6 V- (power) "Negative Power Supply. Can be ground.", 7 ~{SHDN} (in) "Shutdown. If tied high or left fl oating, the part is enabled. If tied low, the part is disabled and draws less than 70 uA of supply current.", 8 +IN1 (in) "High Impedance Input. Normally used as the single-ended input."

## LT6402CUD-6#PBF
designator U?
Single Channel, Low Distortion, Low Noise Differential ADC Driver, Av = 6 dB, 300 MHz Typical GBW, 400 V/us Typical SR, 4 to 5.5 V, 16-Pin QFN (UD-16), Commercial, Pb-Free; Linear Technology Part Number: LT6402-6; Manufacturer: Linear Technology; PartNumber: LT6402CUD-6#PBF; Channels (#): 1; GBW (MHz) Typical: 300; Is (mA) Typical: 30; SR (V/us) Typical: 400; Vos (mV) Guaranteed: 6.5; Vs Max (V): 5.5; Vs Min (V): 4; DatasheetVersion: Rev. A; PackageReference: LT-UD-16; PackageDescription: 16-Lead Plastic QFN, Body 3.00 x 3.00 mm, Pitch 0.5 mm; Supplier 1: Digi-Key; Supplier Part Number 1: LT6402CUD-6#PBF-ND; Supplier 2: Newark; Supplier Part Number 2: 51P4655; RoHS: Pb-Free; Type: DIFF; Vos (mV) Typical: 1; Mounting Technology: Surface Mount; Code_JEDEC: MO-220; ComponentLink1Description: Manufacturer URL; ComponentLink1URL: http://www.linear.com/; ComponentLink2Description: Datasheet; ComponentLink2URL: http://cds.linear.com/docs/en/datasheet/64026fa.pdf; ComponentLink3Description: Package Specification; ComponentLink3URL: http://cds.linear.com/docs/en/packaging/QFN_16_05-08-1691.pdf
footprint LT-UD-16_N (QFN, 16-Leads, Body 3x3mm, Pitch 0.5mm, Thermal Pad 1.45x1.45mm, IPC Medium Density)
footprint LT-UD-16_L (QFN, 16-Leads, Body 3x3mm, Pitch 0.5mm, Thermal Pad 1.45x1.45mm, IPC High Density)
footprint LT-UD-16_M (QFN, 16-Leads, Body 3x3mm, Pitch 0.5mm, Thermal Pad 1.45x1.45mm, IPC Low Density)
pins: 1 VCCC (power) "Positive Power Supply (Normally Tied to 5V). All three pins must be tied to the same voltage. Bypass each pin with 1000pF and 0.1uF capacitors as close to the package as possible. Split supplies are possible as long as the (See Datasheet)", 2 VOCM (in) "This pin sets the output common mode voltage. Without additional biasing, both inputs bias to this voltage as well. This input is high impedance.", 3 VCCA (power) "Positive Power Supply (Normally Tied to 5V). All three pins must be tied to the same voltage. Bypass each pin with 1000pF and 0.1uF capacitors as close to the package as possible. Split supplies are possible as long as the (See Datasheet)", 4 VEEA (power) "Negative Power Supply (Normally Tied to Ground). All three pins must be tied to the same voltage. Split supplies are possible as long as the voltage between VCC and VEE is 5V. If these pins are not tied to ground, bypass (See Datasheet)", 5 +OUT (out) "Outputs (Unfi ltered). These pins are high bandwidth, low-impedance outputs. The DC output voltage at these pins is set to the voltage applied at VOCM.", 6 +OUTFILTERED (out) "Filtered Outputs. These pins add a series 50ohm resistor from the unfi ltered outputs and three 14pF capacitors. Each output has 14pF to VEE, plus an additional 14pF between each pin (See the Block Diagram). This fi lter has (See Datasheet)", 7 -OUTFILTERED (out) "Filtered Outputs. These pins add a series 50ohm resistor from the unfi ltered outputs and three 14pF capacitors. Each output has 14pF to VEE, plus an additional 14pF between each pin (See the Block Diagram). This fi lter has (See Datasheet)", 8 -OUT (out) "Outputs (Unfi ltered). These pins are high bandwidth, low-impedance outputs. The DC output voltage at these pins is set to the voltage applied at VOCM.", 9 VEEB (power) "Negative Power Supply (Normally Tied to Ground). All three pins must be tied to the same voltage. Split supplies are possible as long as the voltage between VCC and VEE is 5V. If these pins are not tied to ground, bypass (See Datasheet)", 10 VCCB (power) "Positive Power Supply (Normally Tied to 5V). All three pins must be tied to the same voltage. Bypass each pin with 1000pF and 0.1uF capacitors as close to the package as possible. Split supplies are possible as long as the (See Datasheet)", 11 ~{ENABLE} (in) "This pin is a TTL logic input referenced to the VEEC pin. If low, the LT6402-6 is enabled and draws typically 30mA of supply current. If high, the LT6402-6 is disabled and draws typically 250uA.", 12 VEEC (power) "Negative Power Supply (Normally Tied to Ground). All three pins must be tied to the same voltage. Split supplies are possible as long as the voltage between VCC and VEE is 5V. If these pins are not tied to ground, bypass (See Datasheet)", 13 -INB (in) "Negative Inputs. These pins are normally tied together. These inputs may be DC- or ACcoupled. If the inputs are AC-coupled, they will self-bias to the voltage applied to the VOCM pin.", 14 -INA (in) "Negative Inputs. These pins are normally tied together. These inputs may be DC- or ACcoupled. If the inputs are AC-coupled, they will self-bias to the voltage applied to the VOCM pin.", 15 +INB (in) "Positive Inputs. These pins are normally tied together. These inputs may be DC- or ACcoupled. If the inputs are AC-coupled, they will self-bias to the voltage applied to the VOCM pin.", 16 +INA (in) "Positive Inputs. These pins are normally tied together. These inputs may be DC- or ACcoupled. If the inputs are AC-coupled, they will self-bias to the voltage applied to the VOCM pin.", 17 EP (power) "Tie the pad to VEEC (Pin 12). If split supplies are used, DO NOT tie the pad to ground."

## LT6402CUD-6#TRPBF
designator U?
Single Channel, Low Distortion, Low Noise Differential ADC Driver, Av = 6 dB, 300 MHz Typical GBW, 400 V/us Typical SR, 4 to 5.5 V, 16-Pin QFN (UD-16), Commercial, Pb-Free, Reel; Linear Technology Part Number: LT6402-6; Manufacturer: Linear Technology; PartNumber: LT6402CUD-6#TRPBF; Channels (#): 1; GBW (MHz) Typical: 300; Is (mA) Typical: 30; SR (V/us) Typical: 400; Vos (mV) Guaranteed: 6.5; Vs Max (V): 5.5; Vs Min (V): 4; DatasheetVersion: Rev. A; PackageReference: LT-UD-16; PackageDescription: 16-Lead Plastic QFN, Body 3.00 x 3.00 mm, Pitch 0.5 mm; Supplier 1: Digi-Key; Supplier Part Number 1: LT6402CUD-6#TRPBF-ND; Supplier 2: Newark; Supplier Part Number 2: 51P4656; Packing: Reel; RoHS: Pb-Free; Type: DIFF; Vos (mV) Typical: 1; Mounting Technology: Surface Mount; Code_JEDEC: MO-220; ComponentLink1Description: Manufacturer URL; ComponentLink1URL: http://www.linear.com/; ComponentLink2Description: Datasheet; ComponentLink2URL: http://cds.linear.com/docs/en/datasheet/64026fa.pdf; ComponentLink3Description: Package Specification; ComponentLink3URL: http://cds.linear.com/docs/en/packaging/QFN_16_05-08-1691.pdf
footprint LT-UD-16_N (QFN, 16-Leads, Body 3x3mm, Pitch 0.5mm, Thermal Pad 1.45x1.45mm, IPC Medium Density)
footprint LT-UD-16_L (QFN, 16-Leads, Body 3x3mm, Pitch 0.5mm, Thermal Pad 1.45x1.45mm, IPC High Density)
footprint LT-UD-16_M (QFN, 16-Leads, Body 3x3mm, Pitch 0.5mm, Thermal Pad 1.45x1.45mm, IPC Low Density)
pins: 1 VCCC (power) "Positive Power Supply (Normally Tied to 5V). All three pins must be tied to the same voltage. Bypass each pin with 1000pF and 0.1uF capacitors as close to the package as possible. Split supplies are possible as long as the (See Datasheet)", 2 VOCM (in) "This pin sets the output common mode voltage. Without additional biasing, both inputs bias to this voltage as well. This input is high impedance.", 3 VCCA (power) "Positive Power Supply (Normally Tied to 5V). All three pins must be tied to the same voltage. Bypass each pin with 1000pF and 0.1uF capacitors as close to the package as possible. Split supplies are possible as long as the (See Datasheet)", 4 VEEA (power) "Negative Power Supply (Normally Tied to Ground). All three pins must be tied to the same voltage. Split supplies are possible as long as the voltage between VCC and VEE is 5V. If these pins are not tied to ground, bypass (See Datasheet)", 5 +OUT (out) "Outputs (Unfi ltered). These pins are high bandwidth, low-impedance outputs. The DC output voltage at these pins is set to the voltage applied at VOCM.", 6 +OUTFILTERED (out) "Filtered Outputs. These pins add a series 50ohm resistor from the unfi ltered outputs and three 14pF capacitors. Each output has 14pF to VEE, plus an additional 14pF between each pin (See the Block Diagram). This fi lter has (See Datasheet)", 7 -OUTFILTERED (out) "Filtered Outputs. These pins add a series 50ohm resistor from the unfi ltered outputs and three 14pF capacitors. Each output has 14pF to VEE, plus an additional 14pF between each pin (See the Block Diagram). This fi lter has (See Datasheet)", 8 -OUT (out) "Outputs (Unfi ltered). These pins are high bandwidth, low-impedance outputs. The DC output voltage at these pins is set to the voltage applied at VOCM.", 9 VEEB (power) "Negative Power Supply (Normally Tied to Ground). All three pins must be tied to the same voltage. Split supplies are possible as long as the voltage between VCC and VEE is 5V. If these pins are not tied to ground, bypass (See Datasheet)", 10 VCCB (power) "Positive Power Supply (Normally Tied to 5V). All three pins must be tied to the same voltage. Bypass each pin with 1000pF and 0.1uF capacitors as close to the package as possible. Split supplies are possible as long as the (See Datasheet)", 11 ~{ENABLE} (in) "This pin is a TTL logic input referenced to the VEEC pin. If low, the LT6402-6 is enabled and draws typically 30mA of supply current. If high, the LT6402-6 is disabled and draws typically 250uA.", 12 VEEC (power) "Negative Power Supply (Normally Tied to Ground). All three pins must be tied to the same voltage. Split supplies are possible as long as the voltage between VCC and VEE is 5V. If these pins are not tied to ground, bypass (See Datasheet)", 13 -INB (in) "Negative Inputs. These pins are normally tied together. These inputs may be DC- or ACcoupled. If the inputs are AC-coupled, they will self-bias to the voltage applied to the VOCM pin.", 14 -INA (in) "Negative Inputs. These pins are normally tied together. These inputs may be DC- or ACcoupled. If the inputs are AC-coupled, they will self-bias to the voltage applied to the VOCM pin.", 15 +INB (in) "Positive Inputs. These pins are normally tied together. These inputs may be DC- or ACcoupled. If the inputs are AC-coupled, they will self-bias to the voltage applied to the VOCM pin.", 16 +INA (in) "Positive Inputs. These pins are normally tied together. These inputs may be DC- or ACcoupled. If the inputs are AC-coupled, they will self-bias to the voltage applied to the VOCM pin.", 17 EP (power) "Tie the pad to VEEC (Pin 12). If split supplies are used, DO NOT tie the pad to ground."

## LT6402CUD-12#PBF
designator U?
Single Channel, Low Distortion, Low Noise Differential ADC Driver, Av = 12 dB, 300 MHz Typical GBW, 400 V/us Typical SR, 4 to 5.5 V, 16-Pin QFN (UD-16), Commercial, Pb-Free; Linear Technology Part Number: LT6402-12; Manufacturer: Linear Technology; PartNumber: LT6402CUD-12#PBF; Channels (#): 1; GBW (MHz) Typical: 300; Is (mA) Typical: 30; SR (V/us) Typical: 400; Vos (mV) Guaranteed: 6.5; Vs Max (V): 5.5; Vs Min (V): 4; DatasheetVersion: Rev. A; PackageReference: LT-UD-16; PackageDescription: 16-Lead Plastic QFN, Body 3.00 x 3.00 mm, Pitch 0.5 mm; Supplier 1: Digi-Key; Supplier Part Number 1: LT6402CUD-12#PBF-ND; Supplier 2: Newark; Supplier Part Number 2: 51P4653; RoHS: Pb-Free; Type: DIFF; Vos (mV) Typical: 1; Mounting Technology: Surface Mount; Code_JEDEC: MO-220; ComponentLink1Description: Manufacturer URL; ComponentLink1URL: http://www.linear.com/; ComponentLink2Description: Datasheet; ComponentLink2URL: http://cds.linear.com/docs/en/datasheet/640212fa.pdf; ComponentLink3Description: Package Specification; ComponentLink3URL: http://cds.linear.com/docs/en/packaging/QFN_16_05-08-1691.pdf
footprint LT-UD-16_N (QFN, 16-Leads, Body 3x3mm, Pitch 0.5mm, Thermal Pad 1.45x1.45mm, IPC Medium Density)
footprint LT-UD-16_L (QFN, 16-Leads, Body 3x3mm, Pitch 0.5mm, Thermal Pad 1.45x1.45mm, IPC High Density)
footprint LT-UD-16_M (QFN, 16-Leads, Body 3x3mm, Pitch 0.5mm, Thermal Pad 1.45x1.45mm, IPC Low Density)
pins: 1 VCCC (power) "Positive Power Supply (Normally Tied to 5V). All three pins must be tied to the same voltage. Bypass each pin with 1000pF and 0.1uF capacitors as close to the package as possible. Split supplies are possible as long as the (See Datasheet)", 2 VOCM (in) "This pin sets the output common mode voltage. Without additional biasing, both inputs bias to this voltage as well. This input is high impedance.", 3 VCCA (power) "Positive Power Supply (Normally Tied to 5V). All three pins must be tied to the same voltage. Bypass each pin with 1000pF and 0.1uF capacitors as close to the package as possible. Split supplies are possible as long as the (See Datasheet)", 4 VEEA (power) "Negative Power Supply (Normally Tied to Ground). All three pins must be tied to the same voltage. Split supplies are possible as long as the voltage between VCC and VEE is 5V. If these pins are not tied to ground, bypass (See Datasheet)", 5 +OUT (out) "Outputs (Unfi ltered). These pins are high bandwidth, low-impedance outputs. The DC output voltage at these pins is set to the voltage applied at VOCM.", 6 +OUTFILTERED (out) "Filtered Outputs. These pins add a series 25ohm resistor from the unfi ltered outputs and three 12pF capacitors. Each output has 12pF to VEE, plus an additional 12pF between each pin (See the Block Diagram). This fi lter has (See Datasheet)", 7 -OUTFILTERED (out) "Filtered Outputs. These pins add a series 25ohm resistor from the unfi ltered outputs and three 12pF capacitors. Each output has 12pF to VEE, plus an additional 12pF between each pin (See the Block Diagram). This fi lter has (See Datasheet)", 8 -OUT (out) "Outputs (Unfi ltered). These pins are high bandwidth, low-impedance outputs. The DC output voltage at these pins is set to the voltage applied at VOCM.", 9 VEEB (power) "Negative Power Supply (Normally Tied to Ground). All three pins must be tied to the same voltage. Split supplies are possible as long as the voltage between VCC and VEE is 5V. If these pins are not tied to ground, bypass (See Datasheet)", 10 VCCB (power) "Positive Power Supply (Normally Tied to 5V). All three pins must be tied to the same voltage. Bypass each pin with 1000pF and 0.1uF capacitors as close to the package as possible. Split supplies are possible as long as the (See Datasheet)", 11 ~{ENABLE} (in) "This pin is a TTL logic input referenced to the VEEC pin. If low, the LT1993-10 is enabled and draws typically 100mA of supply current. If high, the LT1993-10 is disabled and draws typically 250uA.", 12 VEEC (power) "Negative Power Supply (Normally Tied to Ground). All three pins must be tied to the same voltage. Split supplies are possible as long as the voltage between VCC and VEE is 5V. If these pins are not tied to ground, bypass (See Datasheet)", 13 -IN B (in) "Negative Inputs. These pins are normally tied together. These inputs may be DC- or ACcoupled. If the inputs are AC-coupled, they will self-bias to the voltage applied to the VOCM pin.", 14 -IN A (in) "Negative Inputs. These pins are normally tied together. These inputs may be DC- or ACcoupled. If the inputs are AC-coupled, they will self-bias to the voltage applied to the VOCM pin.", 15 +IN B (in) "Positive Inputs. These pins are normally tied together. These inputs may be DC- or ACcoupled. If the inputs are AC-coupled, they will self-bias to the voltage applied to the VOCM pin.", 16 +IN A (in) "Positive Inputs. These pins are normally tied together. These inputs may be DC- or ACcoupled. If the inputs are AC-coupled, they will self-bias to the voltage applied to the VOCM pin.", 17 EP (power) "Tie the pad to VEEC (Pin 12). If split supplies are used, DO NOT tie the pad to ground."